# EAGLE library part SN74ALS138AN (library SN74ALS138AN)
3-Line to 8-Line Decoders/Demultiplexers Source: Datasheet <http://www.ti.com/lit/gpn/sn74als138a>
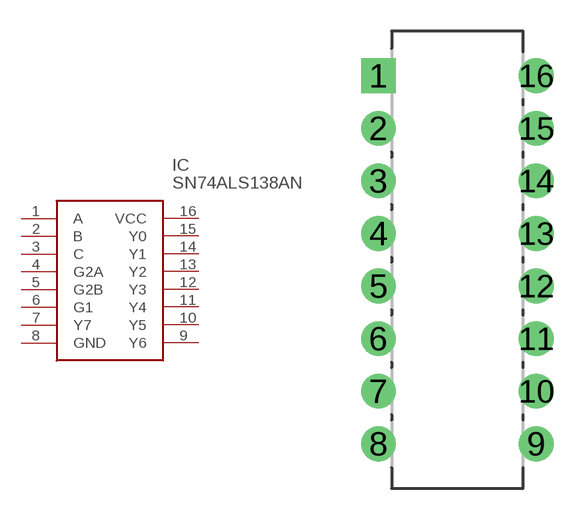
[diagram p0: symbol with the pads of DIP254P762X508-16; footprint DIP254P762X508-16]

Designator prefix IC

## SN74ALS138AN (Arrow_Part_Number: SN74ALS138AN; Arrow_Price-Stock: https://www.arrow.com/en/products/sn74als138an/texas-instruments; Description: 3-Line to 8-Line Decoders/Demultiplexers; Height: mm; Manufacturer_Name: Texas Instruments; Manufacturer_Part_Number: SN74ALS138AN; Mouser_Part_Number: 595-SN74ALS138AN; Mouser_Price-Stock: https://www.mouser.co.uk/ProductDetail/Texas-Instruments/SN74ALS138AN?qs=tJ5HNKWh3OWp0jMuiORIJQ%3D%3D)  [DIP254P762X508-16]
1  A
2  B
3  C
4  G2A
5  G2B
6  G1
7  Y7
8  GND
9  Y6
10  Y5
11  Y4
12  Y3
13  Y2
14  Y1
15  Y0
16  VCC

## Footprint DIP254P762X508-16 (pad centres in mm)
DIP254P762X508-16
drill 1.118 pad 1.676 square: 1 -7.62,17.78
drill 1.118 pad 1.676: 2 -7.62,15.24; 3 -7.62,12.7; 4 -7.62,10.16; 5 -7.62,7.62; 6 -7.62,5.08; 7 -7.62,2.54; 8 -7.62,0; 9 0,0; 10 0,2.54; 11 0,5.08; 12 0,7.62; 13 0,10.16; 14 0,12.7; 15 0,15.24; 16 0,17.78